# Altium integrated library solpad.IntLib: 8 symbols
Pins are listed as number, name and electrical type; pins without a type are passive.

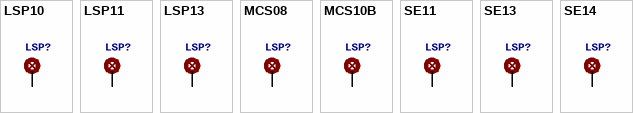
[diagram p0: symbols LSP10 to SE14]

## LSP10
designator LSP?, comment SOLDER PAD    drill 1.0 mm, distributor Buerklin, 12H555  (value not drawn)
footprint LSP10
pins: MP

## LSP11
designator LSP?, comment SOLDER PAD   drill 1.1 mm  (value not drawn)
footprint LSP11
pins: MP

## LSP13
designator LSP?, comment SOLDER PAD    drill 1.3 mm, distributor Buerklin, 12H562  (value not drawn)
footprint LSP13
pins: MP

## MCS08
designator LSP?, comment SOLDER PAD    MC S0,8, drill 1.2 mm, distributor Buerklin, 08F130  (value not drawn)
footprint MCS08
pins: MP

## MCS10B
designator LSP?, comment SOLDER PAD    MC S1, distributor Buerklin, 15F505  (value not drawn)
footprint MCS10B
pins: MP

## SE11
designator LSP?, comment SOLDER PAD    RTM, drill 1,1mm, distributor Buerklin, 07F810  (value not drawn)
footprint SE11
pins: MP

## SE13
designator LSP?, comment SOLDER PAD    E1542,  drill 1,3mm, distributor Buerklin, 07F815  (value not drawn)
footprint SE13
pins: MP

## SE14
designator LSP?, comment SOLDER PAD    E1553,  drill 1,4mm, distributor Buerklin, 07F820  (value not drawn)
footprint SE14
pins: MP